# Altium schematic symbol library Memory Flash NAND.SchLib: 13 symbols
Pins are listed as number, name and electrical type; pins without a type are passive.

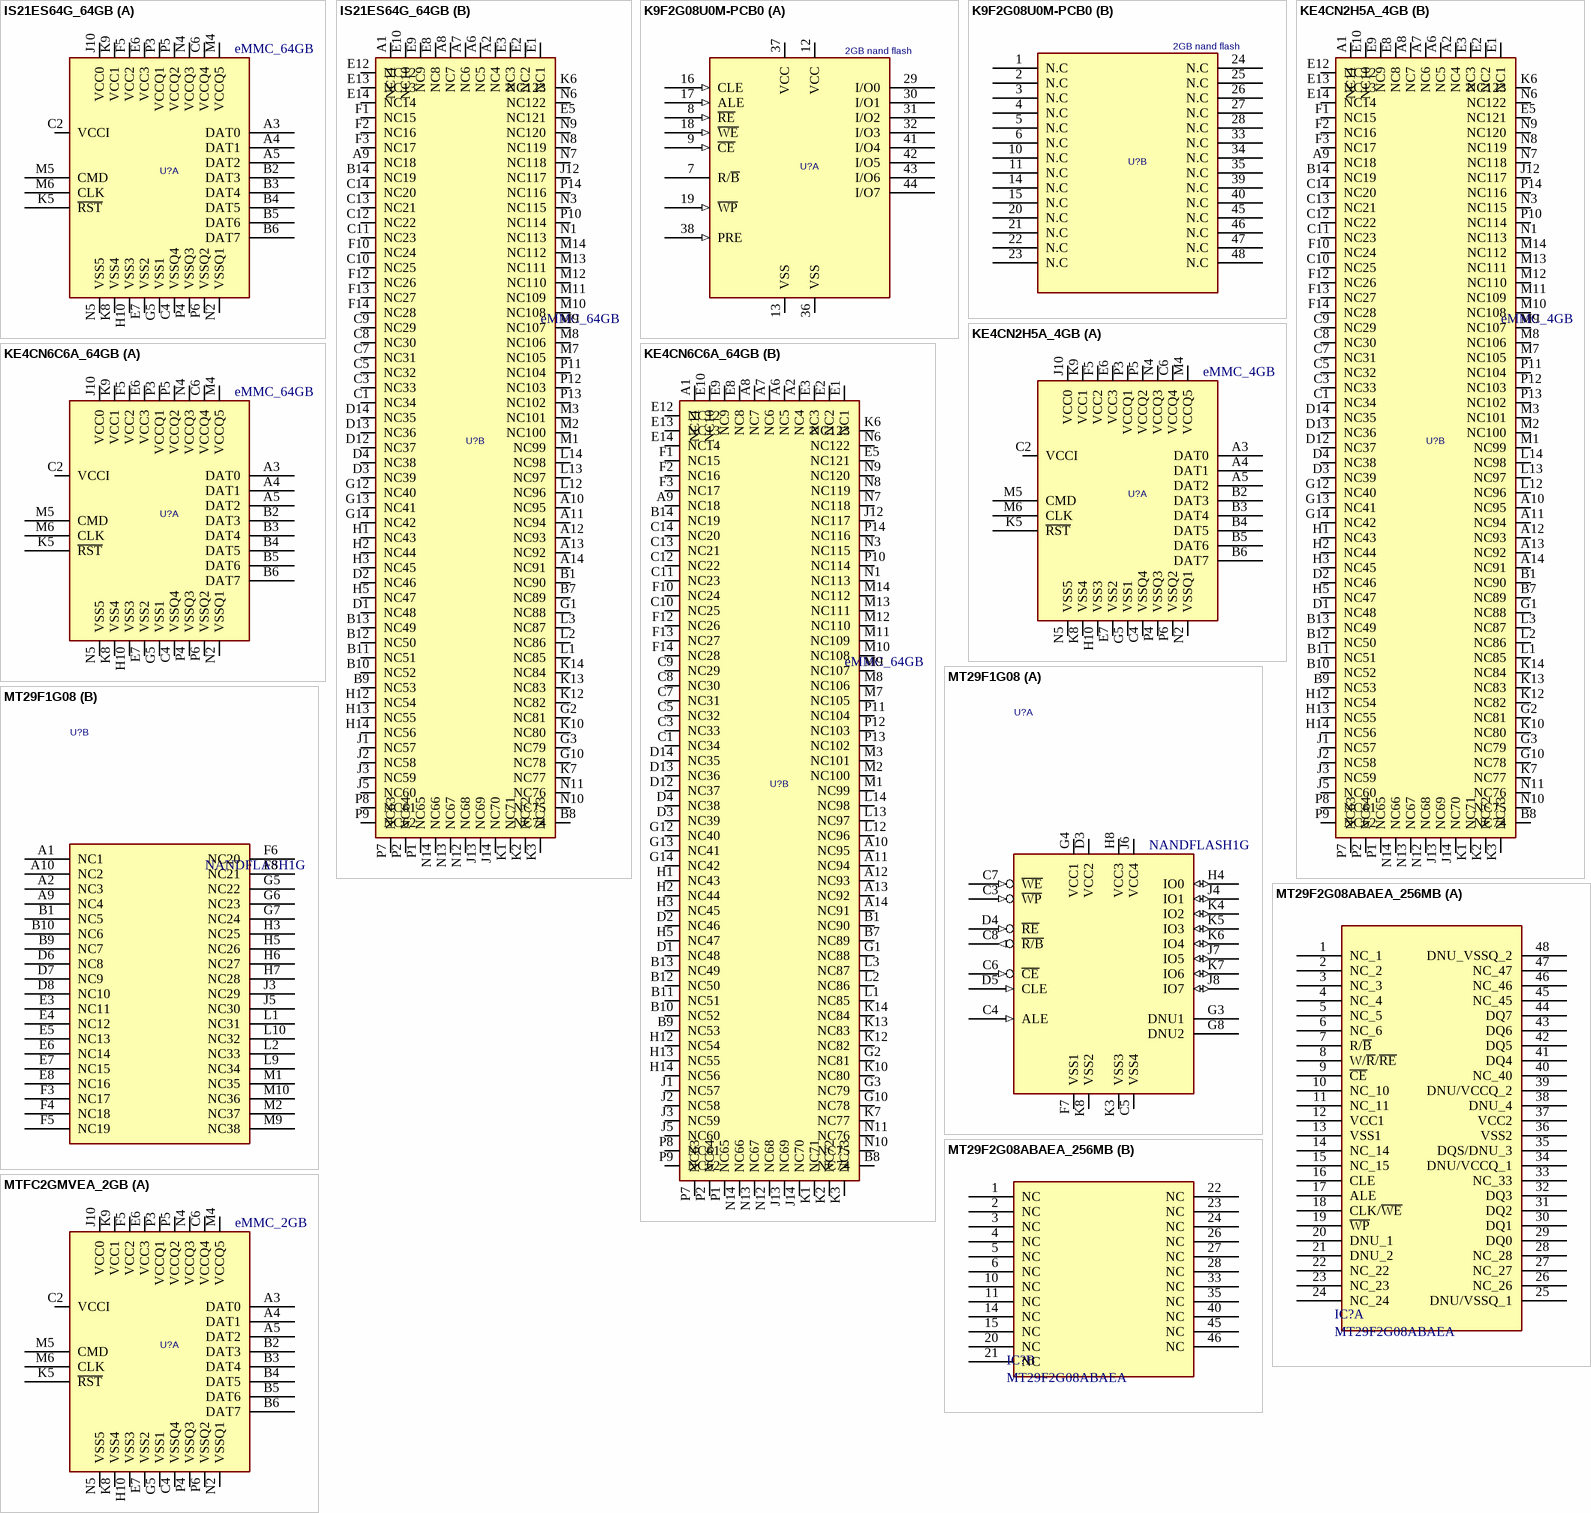
[diagram p0: symbols IS21ES64G_64GB to MTFC2GMVEA_2GB]

## IS21ES64G_64GB
designator U?, comment eMMC_64GB
eMMC NAND FLASH, 512Gb (64G x4), 153-VFBGA; MANF_P#: IS21ES64G, IS22ES64G (AUTOMOTIVE); MANF: ISSI; PARAM2: 3.3V; PARAM: 512Gb (128G x4); PRICE: 53$; VALUE: eMMC_64GB
footprint BGA50_153_11X13 (BGA 153ball, pitch:0.5mm, 11.5x13mm)
part A pins: A3 DAT0, A4 DAT1, A5 DAT2, B2 DAT3, B3 DAT4, B4 DAT5, B5 DAT6, B6 DAT7, C2 VCCI (power), C4 VSSQ4, C6 VCCQ4, E6 VCC3 (power), E7 VSS2 (power), F5 VCC2 (power), G5 VSS1 (power), H10 VSS3 (power), J10 VCC0, K5 ~{RST}, K8 VSS4 (power), K9 VCC1 (power), M4 VCCQ5 (power), M5 CMD, M6 CLK, N2 VSSQ1 (power), N4 VCCQ3 (power), N5 VSS5 (power), P3 VCCQ1 (power), P4 VSSQ3 (power), P5 VCCQ2 (power), P6 VSSQ2 (power)
part B pins: A1 NC11, A2 NC4, A6 NC5, A7 NC6, A8 NC7, A9 NC18, A10 NC95, A11 NC94, A12 NC93, A13 NC92, A14 NC91, B1 NC90, B7 NC89, B8 NC74, B9 NC53, B10 NC52, B11 NC51, B12 NC50, B13 NC49, B14 NC19, C1 NC34, C3 NC33, C5 NC32, C7 NC31, C8 NC30, C9 NC29, C10 NC25, C11 NC23, C12 NC22, C13 NC21, C14 NC20, D1 NC48, D2 NC46, D3 NC39, D4 NC38, D12 NC37, D13 NC36, D14 NC35, E1 NC1, E2 NC2, E3 NC3, E5 NC121, E8 NC8, E9 NC9, E10 NC10, E12 NC12, E13 NC13, E14 NC14, F1 NC15, F2 NC16, F3 NC17, F10 NC24, F12 NC26, F13 NC27, F14 NC28, G1 NC88, G2 NC81, G3 NC79, G10 NC78, G12 NC40, G13 NC41, G14 NC42, H1 NC43, H2 NC44, H3 NC45, H5 NC47, H12 NC54, H13 NC55, H14 NC56, J1 NC57, J2 NC58, J3 NC59, J5 NC60, J12 NC117, J13 NC69, J14 NC70, K1 NC71, K2 NC72, K3 NC73, K6 NC123, K7 NC77, K10 NC80, K12 NC82, K13 NC83, K14 NC84, L1 NC85, L2 NC86, L3 NC87, L12 NC96, L13 NC97, L14 NC98, M1 NC99, M2 NC100, M3 NC101, M7 NC105, M8 NC106, M9 NC107, M10 NC108, M11 NC109, M12 NC110, M13 NC111, M14 NC112, N1 NC113, N3 NC115, N6 NC122, N7 NC118, N8 NC119, N9 NC120, N10 NC75, N11 NC76, N12 NC68, N13 NC67, N14 NC66, P1 NC65, P2 NC64, P7 NC63, P8 NC61, P9 NC62, P10 NC114, P11 NC104, P12 NC103, P13 NC102, P14 NC116

## K9F2G08U0M-PCB0
designator U?, comment 2GB nand flash
Nand Flash, 2GB; PARAM2: 2.7~3.6V; MANF_P#: K9F2G08U0M-PCB0; MANF: SAMSUNG; VALUE: 2GB nand flash
footprint SOG50_48 (DGG TSSOP (TI), MO-153-ED (JEDEC), 48Lead, pitch: 0.5mm, 12.5x6.1x1.2mm)
part A pins: 7 R/~{B} (oc), 8 ~{RE} (in), 9 ~{CE} (in), 12 VCC (power), 13 VSS (power), 16 CLE (in), 17 ALE (in), 18 ~{WE} (in), 19 ~{WP} (in), 29 I/O0 (hiz), 30 I/O1 (hiz), 31 I/O2 (hiz), 32 I/O3 (hiz), 36 VSS (power), 37 VCC (power), 38 PRE (in), 41 I/O4 (hiz), 42 I/O5 (hiz), 43 I/O6 (hiz), 44 I/O7 (hiz)
part B pins: 1 N.C, 2 N.C, 3 N.C, 4 N.C, 5 N.C, 6 N.C, 10 N.C, 11 N.C, 14 N.C, 15 N.C, 20 N.C, 21 N.C, 22 N.C, 23 N.C, 24 N.C, 25 N.C, 26 N.C, 27 N.C, 28 N.C, 33 N.C, 34 N.C, 35 N.C, 39 N.C, 40 N.C, 45 N.C, 46 N.C, 47 N.C, 48 N.C
2 alternate drawings of the same symbol

## KE4CN2H5A_4GB
designator U?, comment eMMC_4GB
eMMC NAND FLASH, 4GB, 32Gb (4G x 8), 153-VFBGA; MANF_P#: KE4CN2H5A; MANF: Kingston; PARAM2: 2.7~3.6V; PARAM: 4GB, 32Gb (4G x 8); VALUE: eMMC_4GB
footprint BGA50_153_11X13 (BGA 153ball, pitch:0.5mm, 11.5x13mm)
part A pins: A3 DAT0, A4 DAT1, A5 DAT2, B2 DAT3, B3 DAT4, B4 DAT5, B5 DAT6, B6 DAT7, C2 VCCI (power), C4 VSSQ4, C6 VCCQ4, E6 VCC3 (power), E7 VSS2 (power), F5 VCC2 (power), G5 VSS1 (power), H10 VSS3 (power), J10 VCC0, K5 ~{RST}, K8 VSS4 (power), K9 VCC1 (power), M4 VCCQ5 (power), M5 CMD, M6 CLK, N2 VSSQ1 (power), N4 VCCQ3 (power), N5 VSS5 (power), P3 VCCQ1 (power), P4 VSSQ3 (power), P5 VCCQ2 (power), P6 VSSQ2 (power)
part B pins: A1 NC11, A2 NC4, A6 NC5, A7 NC6, A8 NC7, A9 NC18, A10 NC95, A11 NC94, A12 NC93, A13 NC92, A14 NC91, B1 NC90, B7 NC89, B8 NC74, B9 NC53, B10 NC52, B11 NC51, B12 NC50, B13 NC49, B14 NC19, C1 NC34, C3 NC33, C5 NC32, C7 NC31, C8 NC30, C9 NC29, C10 NC25, C11 NC23, C12 NC22, C13 NC21, C14 NC20, D1 NC48, D2 NC46, D3 NC39, D4 NC38, D12 NC37, D13 NC36, D14 NC35, E1 NC1, E2 NC2, E3 NC3, E5 NC121, E8 NC8, E9 NC9, E10 NC10, E12 NC12, E13 NC13, E14 NC14, F1 NC15, F2 NC16, F3 NC17, F10 NC24, F12 NC26, F13 NC27, F14 NC28, G1 NC88, G2 NC81, G3 NC79, G10 NC78, G12 NC40, G13 NC41, G14 NC42, H1 NC43, H2 NC44, H3 NC45, H5 NC47, H12 NC54, H13 NC55, H14 NC56, J1 NC57, J2 NC58, J3 NC59, J5 NC60, J12 NC117, J13 NC69, J14 NC70, K1 NC71, K2 NC72, K3 NC73, K6 NC123, K7 NC77, K10 NC80, K12 NC82, K13 NC83, K14 NC84, L1 NC85, L2 NC86, L3 NC87, L12 NC96, L13 NC97, L14 NC98, M1 NC99, M2 NC100, M3 NC101, M7 NC105, M8 NC106, M9 NC107, M10 NC108, M11 NC109, M12 NC110, M13 NC111, M14 NC112, N1 NC113, N3 NC115, N6 NC122, N7 NC118, N8 NC119, N9 NC120, N10 NC75, N11 NC76, N12 NC68, N13 NC67, N14 NC66, P1 NC65, P2 NC64, P7 NC63, P8 NC61, P9 NC62, P10 NC114, P11 NC104, P12 NC103, P13 NC102, P14 NC116

## KE4CN6C6A_64GB
designator U?, comment eMMC_64GB
eMMC NAND FLASH, 64GB, 512Gb (64G x 8), 153-VFBGA; MANF_P#: KE4CN2H5A; MANF: Kingston; PARAM2: 2.7~3.6V; PARAM: 64GB, 512Gb (64G x8); VALUE: eMMC_64GB
footprint BGA50_153_11X13 (BGA 153ball, pitch:0.5mm, 11.5x13mm)
part A pins: A3 DAT0, A4 DAT1, A5 DAT2, B2 DAT3, B3 DAT4, B4 DAT5, B5 DAT6, B6 DAT7, C2 VCCI (power), C4 VSSQ4, C6 VCCQ4, E6 VCC3 (power), E7 VSS2 (power), F5 VCC2 (power), G5 VSS1 (power), H10 VSS3 (power), J10 VCC0, K5 ~{RST}, K8 VSS4 (power), K9 VCC1 (power), M4 VCCQ5 (power), M5 CMD, M6 CLK, N2 VSSQ1 (power), N4 VCCQ3 (power), N5 VSS5 (power), P3 VCCQ1 (power), P4 VSSQ3 (power), P5 VCCQ2 (power), P6 VSSQ2 (power)
part B pins: A1 NC11, A2 NC4, A6 NC5, A7 NC6, A8 NC7, A9 NC18, A10 NC95, A11 NC94, A12 NC93, A13 NC92, A14 NC91, B1 NC90, B7 NC89, B8 NC74, B9 NC53, B10 NC52, B11 NC51, B12 NC50, B13 NC49, B14 NC19, C1 NC34, C3 NC33, C5 NC32, C7 NC31, C8 NC30, C9 NC29, C10 NC25, C11 NC23, C12 NC22, C13 NC21, C14 NC20, D1 NC48, D2 NC46, D3 NC39, D4 NC38, D12 NC37, D13 NC36, D14 NC35, E1 NC1, E2 NC2, E3 NC3, E5 NC121, E8 NC8, E9 NC9, E10 NC10, E12 NC12, E13 NC13, E14 NC14, F1 NC15, F2 NC16, F3 NC17, F10 NC24, F12 NC26, F13 NC27, F14 NC28, G1 NC88, G2 NC81, G3 NC79, G10 NC78, G12 NC40, G13 NC41, G14 NC42, H1 NC43, H2 NC44, H3 NC45, H5 NC47, H12 NC54, H13 NC55, H14 NC56, J1 NC57, J2 NC58, J3 NC59, J5 NC60, J12 NC117, J13 NC69, J14 NC70, K1 NC71, K2 NC72, K3 NC73, K6 NC123, K7 NC77, K10 NC80, K12 NC82, K13 NC83, K14 NC84, L1 NC85, L2 NC86, L3 NC87, L12 NC96, L13 NC97, L14 NC98, M1 NC99, M2 NC100, M3 NC101, M7 NC105, M8 NC106, M9 NC107, M10 NC108, M11 NC109, M12 NC110, M13 NC111, M14 NC112, N1 NC113, N3 NC115, N6 NC122, N7 NC118, N8 NC119, N9 NC120, N10 NC75, N11 NC76, N12 NC68, N13 NC67, N14 NC66, P1 NC65, P2 NC64, P7 NC63, P8 NC61, P9 NC62, P10 NC114, P11 NC104, P12 NC103, P13 NC102, P14 NC116

## MT29F1G08
designator U?, comment NANDFLASH1G
NAND FLASH, 1G, VFBGA 63P; MANF_P#: MT29F1G08ABBDAHC:D; MANF: MICRON; MANF_P#2: NUMONYX_NAND512R3A2DZA6E; VALUE: NANDFLASH1G
footprint BGA80_63_12X14 (Footprint not found)
part A pins: C3 ~{WP} (in), C4 ALE (in), C5 VSS4 (power), C6 ~{CE} (in), C7 ~{WE} (in), C8 ~{R/B} (out), D3 VCC2 (power), D4 ~{RE} (in), D5 CLE (in), F7 VSS1 (power), G3 DNU1, G4 VCC1 (power), G8 DNU2, H4 IO0 (io), H8 VCC3 (power), J4 IO1 (io), J6 VCC4 (power), J7 IO5 (io), J8 IO7 (io), K3 VSS3 (power), K4 IO2 (io), K5 IO3 (io), K6 IO4 (io), K7 IO6 (io), K8 VSS2 (power)
part B pins: A1 NC1, A2 NC3, A9 NC4, A10 NC2, B1 NC5, B9 NC7, B10 NC6, D6 NC8, D7 NC9, D8 NC10, E3 NC11, E4 NC12, E5 NC13, E6 NC14, E7 NC15, E8 NC16, F3 NC17, F4 NC18, F5 NC19, F6 NC20, F8 NC21, G5 NC22, G6 NC23, G7 NC24, H3 NC25, H5 NC26, H6 NC27, H7 NC28, J3 NC29, J5 NC30, L1 NC31, L2 NC33, L9 NC34, L10 NC32, M1 NC35, M2 NC37, M9 NC38, M10 NC36

## MT29F2G08ABAEA_256MB
designator IC?, comment MT29F2G08ABAEA
NAND FLASH, 2Gb (256M x 8), 48-TSSOP(I); Manufacturer: Micron Technology; MANF_P#: MT29F2G08ABAEAWP-IT:ETR; Address Bus Width: 29b; Operating Supply Voltage: 3.3V; Min Supply Voltage: 2.7V; Max Supply Voltage: 3.6V; Word Size: 8b; Nominal Supply Current: 35mA; Interface: Parallel; Memory Type: Non-Volatile,FLASH; Sync/Async: Asynchronous; Supplier 1: Mouser; Stock 1: 0; Mount: Surface Mount; Case/Package: TFSOP; Number of Pins: 48; Min Operating Temperature: -40°C; Max Operating Temperature: 85°C; Packaging: Tape and Reel; Package Quantity: 1; Density: 2Gb; Memory Size: 2Gb; VALUE: MT29F2G08ABAEA
footprint SOG50_48_W (TSOP I, 12x20mm, pitch: 0.5mm)
part A pins: 1 NC_1, 2 NC_2, 3 NC_3, 4 NC_4, 5 NC_5, 6 NC_6, 7 R/~{B}, 8 W/~{R}/~{RE}, 9 ~{CE}, 10 NC_10, 11 NC_11, 12 VCC1, 13 VSS1, 14 NC_14, 15 NC_15, 16 CLE, 17 ALE, 18 CLK/~{WE}, 19 ~{WP}, 20 DNU_1, 21 DNU_2, 22 NC_22, 23 NC_23, 24 NC_24, 25 DNU/VSSQ_1, 26 NC_26, 27 NC_27, 28 NC_28, 29 DQ0, 30 DQ1, 31 DQ2, 32 DQ3, 33 NC_33, 34 DNU/VCCQ_1, 35 DQS/DNU_3, 36 VSS2, 37 VCC2, 38 DNU_4, 39 DNU/VCCQ_2, 40 NC_40, 41 DQ4, 42 DQ5, 43 DQ6, 44 DQ7, 45 NC_45, 46 NC_46, 47 NC_47, 48 DNU_VSSQ_2
part B pins: 1 NC, 2 NC, 3 NC, 4 NC, 5 NC, 6 NC, 10 NC, 11 NC, 14 NC, 15 NC, 20 NC, 21 NC, 22 NC, 23 NC, 24 NC, 26 NC, 27 NC, 28 NC, 33 NC, 35 NC, 40 NC, 45 NC, 46 NC

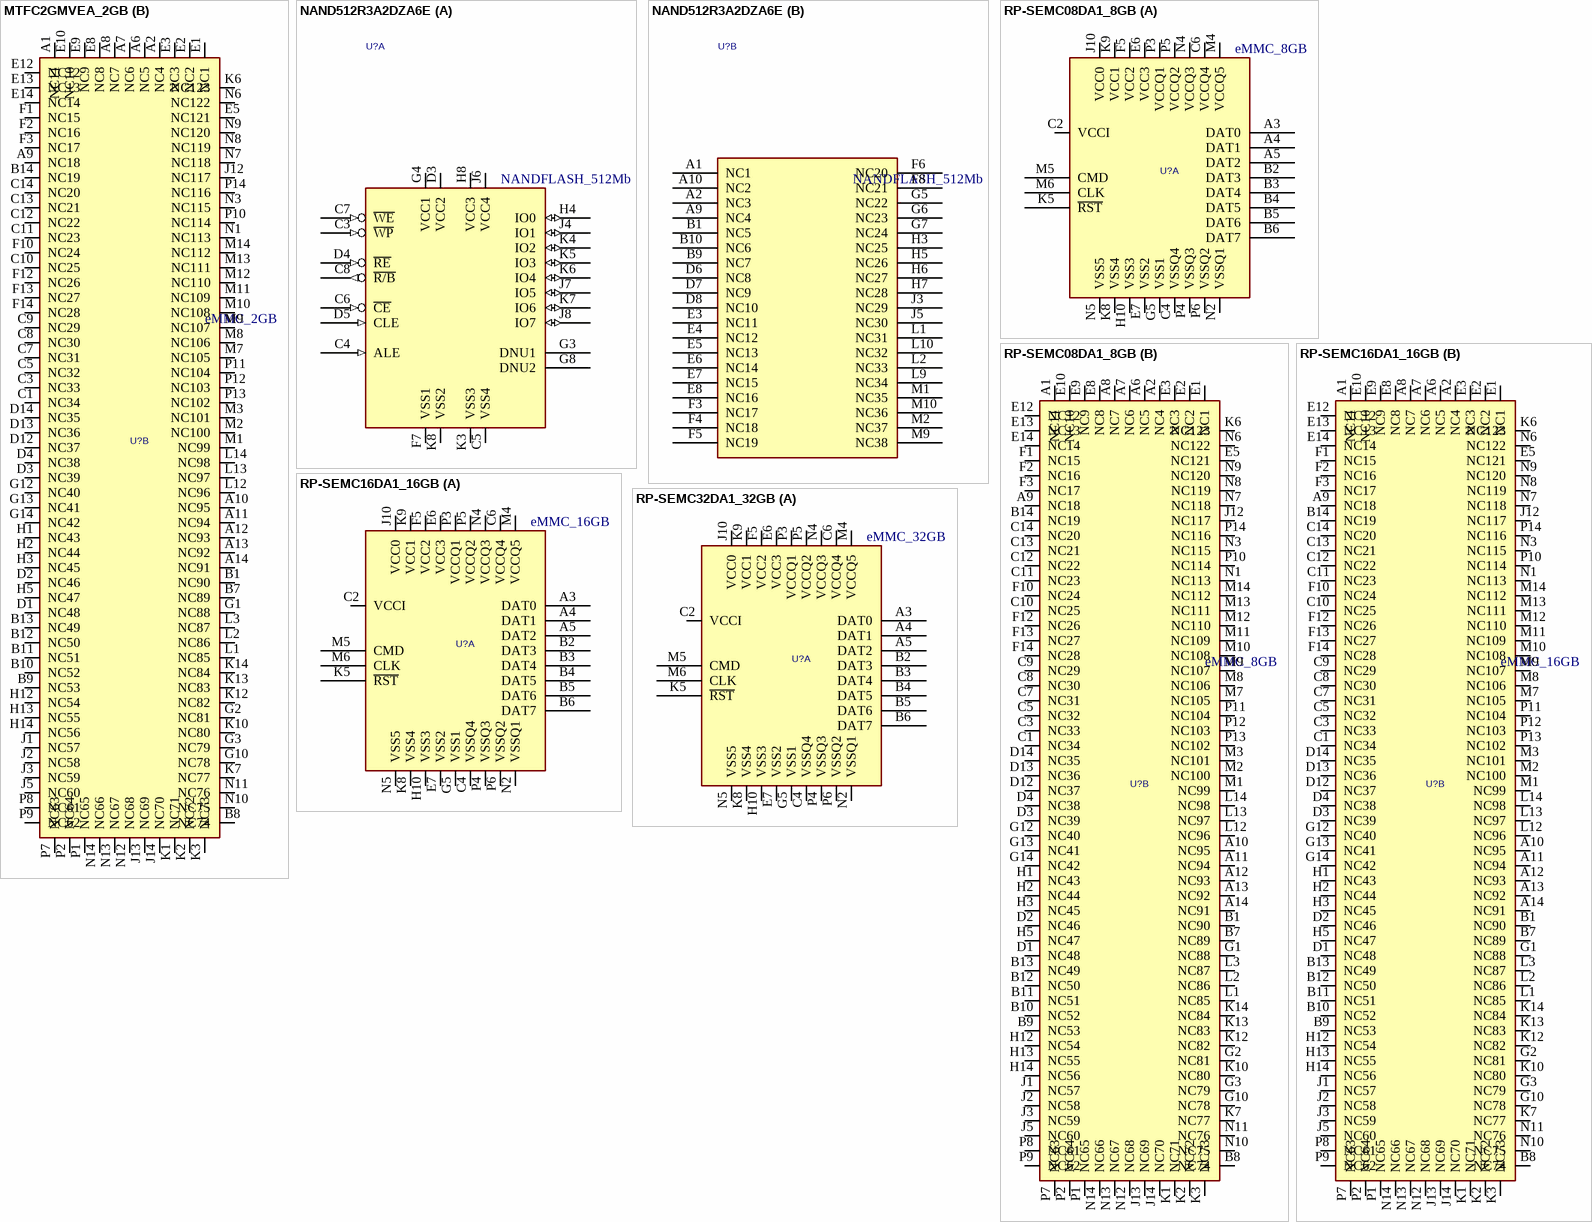
[diagram p1: symbols MTFC2GMVEA_2GB to RP-SEMC32DA1_32GB]

## MTFC2GMVEA_2GB
designator U?, comment eMMC_2GB
eMMC NAND FLASH, 2GB, 16Gb (2G x 8), 153-VFBGA; MANF_P#: MTFC2GMVEA-0M WT; MANF: Micron; PARAM2: 2.7~3.6V; VALUE: eMMC_2GB
footprint BGA50_153_11X13 (BGA 153ball, pitch:0.5mm, 11.5x13mm)
part A pins: A3 DAT0, A4 DAT1, A5 DAT2, B2 DAT3, B3 DAT4, B4 DAT5, B5 DAT6, B6 DAT7, C2 VCCI (power), C4 VSSQ4, C6 VCCQ4, E6 VCC3 (power), E7 VSS2 (power), F5 VCC2 (power), G5 VSS1 (power), H10 VSS3 (power), J10 VCC0, K5 ~{RST}, K8 VSS4 (power), K9 VCC1 (power), M4 VCCQ5 (power), M5 CMD, M6 CLK, N2 VSSQ1 (power), N4 VCCQ3 (power), N5 VSS5 (power), P3 VCCQ1 (power), P4 VSSQ3 (power), P5 VCCQ2 (power), P6 VSSQ2 (power)
part B pins: A1 NC11, A2 NC4, A6 NC5, A7 NC6, A8 NC7, A9 NC18, A10 NC95, A11 NC94, A12 NC93, A13 NC92, A14 NC91, B1 NC90, B7 NC89, B8 NC74, B9 NC53, B10 NC52, B11 NC51, B12 NC50, B13 NC49, B14 NC19, C1 NC34, C3 NC33, C5 NC32, C7 NC31, C8 NC30, C9 NC29, C10 NC25, C11 NC23, C12 NC22, C13 NC21, C14 NC20, D1 NC48, D2 NC46, D3 NC39, D4 NC38, D12 NC37, D13 NC36, D14 NC35, E1 NC1, E2 NC2, E3 NC3, E5 NC121, E8 NC8, E9 NC9, E10 NC10, E12 NC12, E13 NC13, E14 NC14, F1 NC15, F2 NC16, F3 NC17, F10 NC24, F12 NC26, F13 NC27, F14 NC28, G1 NC88, G2 NC81, G3 NC79, G10 NC78, G12 NC40, G13 NC41, G14 NC42, H1 NC43, H2 NC44, H3 NC45, H5 NC47, H12 NC54, H13 NC55, H14 NC56, J1 NC57, J2 NC58, J3 NC59, J5 NC60, J12 NC117, J13 NC69, J14 NC70, K1 NC71, K2 NC72, K3 NC73, K6 NC123, K7 NC77, K10 NC80, K12 NC82, K13 NC83, K14 NC84, L1 NC85, L2 NC86, L3 NC87, L12 NC96, L13 NC97, L14 NC98, M1 NC99, M2 NC100, M3 NC101, M7 NC105, M8 NC106, M9 NC107, M10 NC108, M11 NC109, M12 NC110, M13 NC111, M14 NC112, N1 NC113, N3 NC115, N6 NC122, N7 NC118, N8 NC119, N9 NC120, N10 NC75, N11 NC76, N12 NC68, N13 NC67, N14 NC66, P1 NC65, P2 NC64, P7 NC63, P8 NC61, P9 NC62, P10 NC114, P11 NC104, P12 NC103, P13 NC102, P14 NC116

## NAND512R3A2DZA6E
designator U?, comment NANDFLASH_512Mb
NAND FLASH, 512Mb, VFBGA 63P; MANF_P#: NAND512R3A2DZA6E; MANF: NUMONYX; PARAM: 512Mb, 50ns; VALUE: NANDFLASH_512Mb
footprint BGA80_63_12X14 (Footprint not found)
part A pins: C3 ~{WP} (in), C4 ALE (in), C5 VSS4 (power), C6 ~{CE} (in), C7 ~{WE} (in), C8 ~{R/B} (out), D3 VCC2 (power), D4 ~{RE} (in), D5 CLE (in), F7 VSS1 (power), G3 DNU1, G4 VCC1 (power), G8 DNU2, H4 IO0 (io), H8 VCC3 (power), J4 IO1 (io), J6 VCC4 (power), J7 IO5 (io), J8 IO7 (io), K3 VSS3 (power), K4 IO2 (io), K5 IO3 (io), K6 IO4 (io), K7 IO6 (io), K8 VSS2 (power)
part B pins: A1 NC1, A2 NC3, A9 NC4, A10 NC2, B1 NC5, B9 NC7, B10 NC6, D6 NC8, D7 NC9, D8 NC10, E3 NC11, E4 NC12, E5 NC13, E6 NC14, E7 NC15, E8 NC16, F3 NC17, F4 NC18, F5 NC19, F6 NC20, F8 NC21, G5 NC22, G6 NC23, G7 NC24, H3 NC25, H5 NC26, H6 NC27, H7 NC28, J3 NC29, J5 NC30, L1 NC31, L2 NC33, L9 NC34, L10 NC32, M1 NC35, M2 NC37, M9 NC38, M10 NC36

## RP-SEMC08DA1_8GB
designator U?, comment eMMC_8GB
eMMC NAND FLASH, 64Gb (8G x 8), 153-VFBGA; MANF_P#: RP-SEMC08DA1; MANF: Panasonic; PARAM2: 2.7~3.6V; PARAM: 64Gb (8G x 8), -40~85oC; PRICE: 18$; VALUE: eMMC_8GB
footprint BGA50_153_11X13 (BGA 153ball, pitch:0.5mm, 11.5x13mm)
part A pins: A3 DAT0, A4 DAT1, A5 DAT2, B2 DAT3, B3 DAT4, B4 DAT5, B5 DAT6, B6 DAT7, C2 VCCI (power), C4 VSSQ4, C6 VCCQ4, E6 VCC3 (power), E7 VSS2 (power), F5 VCC2 (power), G5 VSS1 (power), H10 VSS3 (power), J10 VCC0, K5 ~{RST}, K8 VSS4 (power), K9 VCC1 (power), M4 VCCQ5 (power), M5 CMD, M6 CLK, N2 VSSQ1 (power), N4 VCCQ3 (power), N5 VSS5 (power), P3 VCCQ1 (power), P4 VSSQ3 (power), P5 VCCQ2 (power), P6 VSSQ2 (power)
part B pins: A1 NC11, A2 NC4, A6 NC5, A7 NC6, A8 NC7, A9 NC18, A10 NC95, A11 NC94, A12 NC93, A13 NC92, A14 NC91, B1 NC90, B7 NC89, B8 NC74, B9 NC53, B10 NC52, B11 NC51, B12 NC50, B13 NC49, B14 NC19, C1 NC34, C3 NC33, C5 NC32, C7 NC31, C8 NC30, C9 NC29, C10 NC25, C11 NC23, C12 NC22, C13 NC21, C14 NC20, D1 NC48, D2 NC46, D3 NC39, D4 NC38, D12 NC37, D13 NC36, D14 NC35, E1 NC1, E2 NC2, E3 NC3, E5 NC121, E8 NC8, E9 NC9, E10 NC10, E12 NC12, E13 NC13, E14 NC14, F1 NC15, F2 NC16, F3 NC17, F10 NC24, F12 NC26, F13 NC27, F14 NC28, G1 NC88, G2 NC81, G3 NC79, G10 NC78, G12 NC40, G13 NC41, G14 NC42, H1 NC43, H2 NC44, H3 NC45, H5 NC47, H12 NC54, H13 NC55, H14 NC56, J1 NC57, J2 NC58, J3 NC59, J5 NC60, J12 NC117, J13 NC69, J14 NC70, K1 NC71, K2 NC72, K3 NC73, K6 NC123, K7 NC77, K10 NC80, K12 NC82, K13 NC83, K14 NC84, L1 NC85, L2 NC86, L3 NC87, L12 NC96, L13 NC97, L14 NC98, M1 NC99, M2 NC100, M3 NC101, M7 NC105, M8 NC106, M9 NC107, M10 NC108, M11 NC109, M12 NC110, M13 NC111, M14 NC112, N1 NC113, N3 NC115, N6 NC122, N7 NC118, N8 NC119, N9 NC120, N10 NC75, N11 NC76, N12 NC68, N13 NC67, N14 NC66, P1 NC65, P2 NC64, P7 NC63, P8 NC61, P9 NC62, P10 NC114, P11 NC104, P12 NC103, P13 NC102, P14 NC116

## RP-SEMC16DA1_16GB
designator U?, comment eMMC_16GB
eMMC NAND FLASH, 128Gb (16G x 8), 153-VFBGA; MANF_P#: RP-SEMC16DA1; MANF: Panasonic; PARAM2: 2.7~3.6V; PARAM: 128Gb (16G x 8); VALUE: eMMC_16GB
footprint BGA50_153_11X13 (BGA 153ball, pitch:0.5mm, 11.5x13mm)
part A pins: A3 DAT0, A4 DAT1, A5 DAT2, B2 DAT3, B3 DAT4, B4 DAT5, B5 DAT6, B6 DAT7, C2 VCCI (power), C4 VSSQ4, C6 VCCQ4, E6 VCC3 (power), E7 VSS2 (power), F5 VCC2 (power), G5 VSS1 (power), H10 VSS3 (power), J10 VCC0, K5 ~{RST}, K8 VSS4 (power), K9 VCC1 (power), M4 VCCQ5 (power), M5 CMD, M6 CLK, N2 VSSQ1 (power), N4 VCCQ3 (power), N5 VSS5 (power), P3 VCCQ1 (power), P4 VSSQ3 (power), P5 VCCQ2 (power), P6 VSSQ2 (power)
part B pins: A1 NC11, A2 NC4, A6 NC5, A7 NC6, A8 NC7, A9 NC18, A10 NC95, A11 NC94, A12 NC93, A13 NC92, A14 NC91, B1 NC90, B7 NC89, B8 NC74, B9 NC53, B10 NC52, B11 NC51, B12 NC50, B13 NC49, B14 NC19, C1 NC34, C3 NC33, C5 NC32, C7 NC31, C8 NC30, C9 NC29, C10 NC25, C11 NC23, C12 NC22, C13 NC21, C14 NC20, D1 NC48, D2 NC46, D3 NC39, D4 NC38, D12 NC37, D13 NC36, D14 NC35, E1 NC1, E2 NC2, E3 NC3, E5 NC121, E8 NC8, E9 NC9, E10 NC10, E12 NC12, E13 NC13, E14 NC14, F1 NC15, F2 NC16, F3 NC17, F10 NC24, F12 NC26, F13 NC27, F14 NC28, G1 NC88, G2 NC81, G3 NC79, G10 NC78, G12 NC40, G13 NC41, G14 NC42, H1 NC43, H2 NC44, H3 NC45, H5 NC47, H12 NC54, H13 NC55, H14 NC56, J1 NC57, J2 NC58, J3 NC59, J5 NC60, J12 NC117, J13 NC69, J14 NC70, K1 NC71, K2 NC72, K3 NC73, K6 NC123, K7 NC77, K10 NC80, K12 NC82, K13 NC83, K14 NC84, L1 NC85, L2 NC86, L3 NC87, L12 NC96, L13 NC97, L14 NC98, M1 NC99, M2 NC100, M3 NC101, M7 NC105, M8 NC106, M9 NC107, M10 NC108, M11 NC109, M12 NC110, M13 NC111, M14 NC112, N1 NC113, N3 NC115, N6 NC122, N7 NC118, N8 NC119, N9 NC120, N10 NC75, N11 NC76, N12 NC68, N13 NC67, N14 NC66, P1 NC65, P2 NC64, P7 NC63, P8 NC61, P9 NC62, P10 NC114, P11 NC104, P12 NC103, P13 NC102, P14 NC116

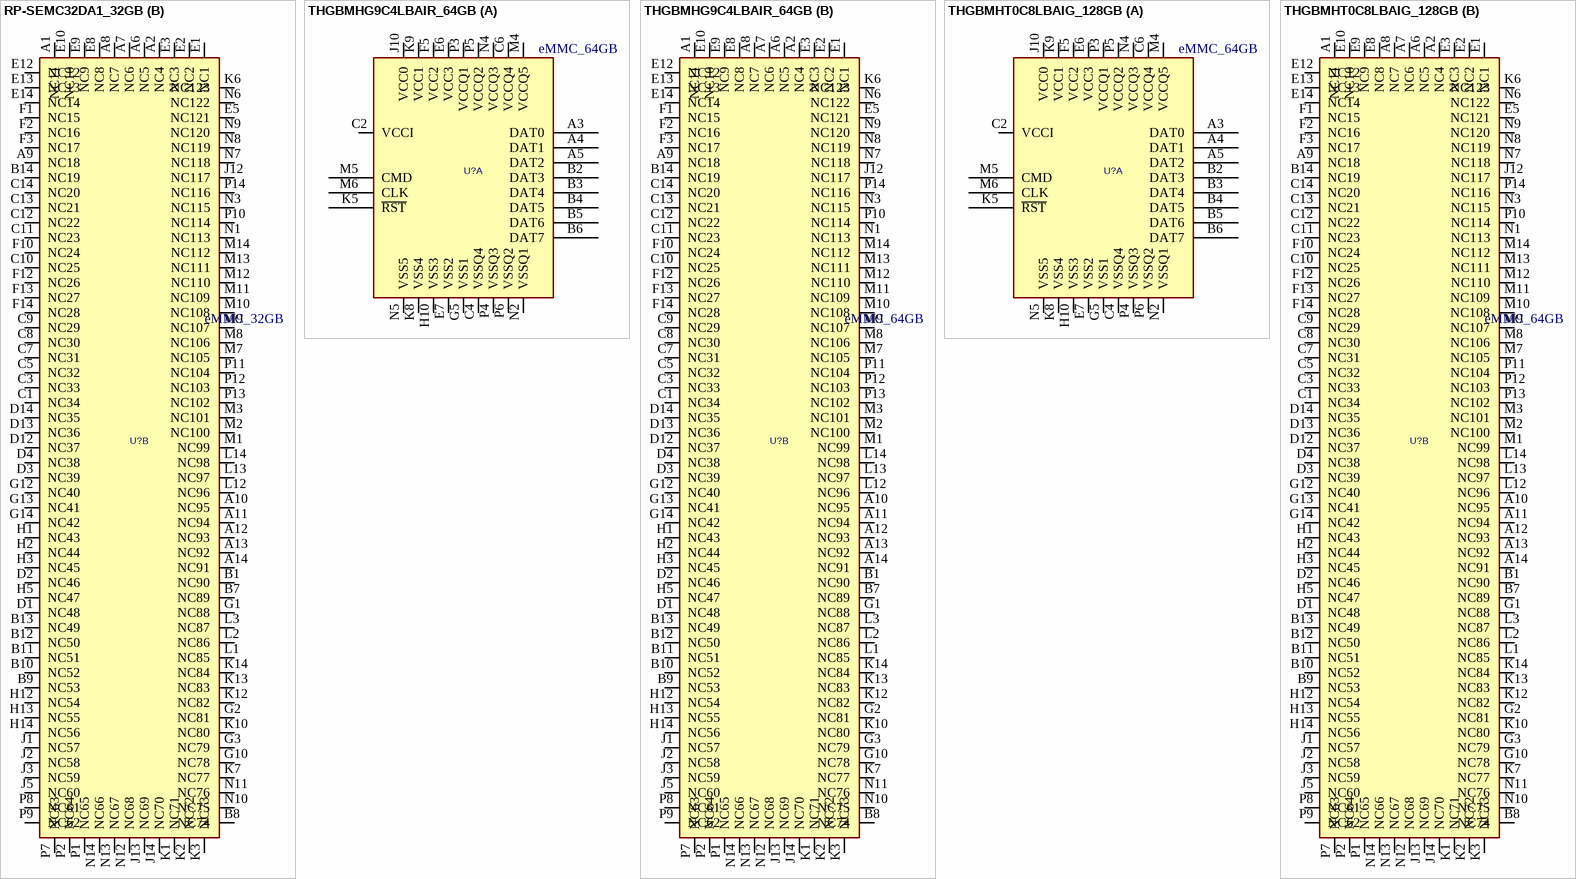
[diagram p2: symbols RP-SEMC32DA1_32GB to THGBMHT0C8LBAIG_128GB]

## RP-SEMC32DA1_32GB
designator U?, comment eMMC_32GB
eMMC NAND FLASH, 256Gb (32G x 8), 153-VFBGA; MANF_P#: RP-SEMC32DA1; MANF: Panasonic; PARAM2: 2.7~3.6V; PARAM: 256Gb (32G x 8); VALUE: eMMC_32GB
footprint BGA50_153_11X13 (BGA 153ball, pitch:0.5mm, 11.5x13mm)
part A pins: A3 DAT0, A4 DAT1, A5 DAT2, B2 DAT3, B3 DAT4, B4 DAT5, B5 DAT6, B6 DAT7, C2 VCCI (power), C4 VSSQ4, C6 VCCQ4, E6 VCC3 (power), E7 VSS2 (power), F5 VCC2 (power), G5 VSS1 (power), H10 VSS3 (power), J10 VCC0, K5 ~{RST}, K8 VSS4 (power), K9 VCC1 (power), M4 VCCQ5 (power), M5 CMD, M6 CLK, N2 VSSQ1 (power), N4 VCCQ3 (power), N5 VSS5 (power), P3 VCCQ1 (power), P4 VSSQ3 (power), P5 VCCQ2 (power), P6 VSSQ2 (power)
part B pins: A1 NC11, A2 NC4, A6 NC5, A7 NC6, A8 NC7, A9 NC18, A10 NC95, A11 NC94, A12 NC93, A13 NC92, A14 NC91, B1 NC90, B7 NC89, B8 NC74, B9 NC53, B10 NC52, B11 NC51, B12 NC50, B13 NC49, B14 NC19, C1 NC34, C3 NC33, C5 NC32, C7 NC31, C8 NC30, C9 NC29, C10 NC25, C11 NC23, C12 NC22, C13 NC21, C14 NC20, D1 NC48, D2 NC46, D3 NC39, D4 NC38, D12 NC37, D13 NC36, D14 NC35, E1 NC1, E2 NC2, E3 NC3, E5 NC121, E8 NC8, E9 NC9, E10 NC10, E12 NC12, E13 NC13, E14 NC14, F1 NC15, F2 NC16, F3 NC17, F10 NC24, F12 NC26, F13 NC27, F14 NC28, G1 NC88, G2 NC81, G3 NC79, G10 NC78, G12 NC40, G13 NC41, G14 NC42, H1 NC43, H2 NC44, H3 NC45, H5 NC47, H12 NC54, H13 NC55, H14 NC56, J1 NC57, J2 NC58, J3 NC59, J5 NC60, J12 NC117, J13 NC69, J14 NC70, K1 NC71, K2 NC72, K3 NC73, K6 NC123, K7 NC77, K10 NC80, K12 NC82, K13 NC83, K14 NC84, L1 NC85, L2 NC86, L3 NC87, L12 NC96, L13 NC97, L14 NC98, M1 NC99, M2 NC100, M3 NC101, M7 NC105, M8 NC106, M9 NC107, M10 NC108, M11 NC109, M12 NC110, M13 NC111, M14 NC112, N1 NC113, N3 NC115, N6 NC122, N7 NC118, N8 NC119, N9 NC120, N10 NC75, N11 NC76, N12 NC68, N13 NC67, N14 NC66, P1 NC65, P2 NC64, P7 NC63, P8 NC61, P9 NC62, P10 NC114, P11 NC104, P12 NC103, P13 NC102, P14 NC116

## THGBMHG9C4LBAIR_64GB
designator U?, comment eMMC_64GB
eMMC NAND FLASH, 512Gb (64G x 8), 153-VFBGA; MANF_P#: THGBMHG9C4LBAIR; MANF: Toshiba; PARAM2: 2.7~3.6V; PARAM: 512Gb (64G x 8), 52MHz; PRICE: 53$; VALUE: eMMC_64GB
footprint BGA50_153_11X13 (BGA 153ball, pitch:0.5mm, 11.5x13mm)
part A pins: A3 DAT0, A4 DAT1, A5 DAT2, B2 DAT3, B3 DAT4, B4 DAT5, B5 DAT6, B6 DAT7, C2 VCCI (power), C4 VSSQ4, C6 VCCQ4, E6 VCC3 (power), E7 VSS2 (power), F5 VCC2 (power), G5 VSS1 (power), H10 VSS3 (power), J10 VCC0, K5 ~{RST}, K8 VSS4 (power), K9 VCC1 (power), M4 VCCQ5 (power), M5 CMD, M6 CLK, N2 VSSQ1 (power), N4 VCCQ3 (power), N5 VSS5 (power), P3 VCCQ1 (power), P4 VSSQ3 (power), P5 VCCQ2 (power), P6 VSSQ2 (power)
part B pins: A1 NC11, A2 NC4, A6 NC5, A7 NC6, A8 NC7, A9 NC18, A10 NC95, A11 NC94, A12 NC93, A13 NC92, A14 NC91, B1 NC90, B7 NC89, B8 NC74, B9 NC53, B10 NC52, B11 NC51, B12 NC50, B13 NC49, B14 NC19, C1 NC34, C3 NC33, C5 NC32, C7 NC31, C8 NC30, C9 NC29, C10 NC25, C11 NC23, C12 NC22, C13 NC21, C14 NC20, D1 NC48, D2 NC46, D3 NC39, D4 NC38, D12 NC37, D13 NC36, D14 NC35, E1 NC1, E2 NC2, E3 NC3, E5 NC121, E8 NC8, E9 NC9, E10 NC10, E12 NC12, E13 NC13, E14 NC14, F1 NC15, F2 NC16, F3 NC17, F10 NC24, F12 NC26, F13 NC27, F14 NC28, G1 NC88, G2 NC81, G3 NC79, G10 NC78, G12 NC40, G13 NC41, G14 NC42, H1 NC43, H2 NC44, H3 NC45, H5 NC47, H12 NC54, H13 NC55, H14 NC56, J1 NC57, J2 NC58, J3 NC59, J5 NC60, J12 NC117, J13 NC69, J14 NC70, K1 NC71, K2 NC72, K3 NC73, K6 NC123, K7 NC77, K10 NC80, K12 NC82, K13 NC83, K14 NC84, L1 NC85, L2 NC86, L3 NC87, L12 NC96, L13 NC97, L14 NC98, M1 NC99, M2 NC100, M3 NC101, M7 NC105, M8 NC106, M9 NC107, M10 NC108, M11 NC109, M12 NC110, M13 NC111, M14 NC112, N1 NC113, N3 NC115, N6 NC122, N7 NC118, N8 NC119, N9 NC120, N10 NC75, N11 NC76, N12 NC68, N13 NC67, N14 NC66, P1 NC65, P2 NC64, P7 NC63, P8 NC61, P9 NC62, P10 NC114, P11 NC104, P12 NC103, P13 NC102, P14 NC116

## THGBMHT0C8LBAIG_128GB
designator U?, comment eMMC_64GB
eMMC NAND FLASH, 1024Gb (128G x 8), 153-VFBGA; MANF_P#: THGBMHG9C4LBAIR; MANF: Toshiba; PARAM2: 2.7~3.6V; PARAM: 1024Gb (128G x 8); PRICE: -; VALUE: eMMC_64GB
footprint BGA50_153_11X13 (BGA 153ball, pitch:0.5mm, 11.5x13mm)
part A pins: A3 DAT0, A4 DAT1, A5 DAT2, B2 DAT3, B3 DAT4, B4 DAT5, B5 DAT6, B6 DAT7, C2 VCCI (power), C4 VSSQ4, C6 VCCQ4, E6 VCC3 (power), E7 VSS2 (power), F5 VCC2 (power), G5 VSS1 (power), H10 VSS3 (power), J10 VCC0, K5 ~{RST}, K8 VSS4 (power), K9 VCC1 (power), M4 VCCQ5 (power), M5 CMD, M6 CLK, N2 VSSQ1 (power), N4 VCCQ3 (power), N5 VSS5 (power), P3 VCCQ1 (power), P4 VSSQ3 (power), P5 VCCQ2 (power), P6 VSSQ2 (power)
part B pins: A1 NC11, A2 NC4, A6 NC5, A7 NC6, A8 NC7, A9 NC18, A10 NC95, A11 NC94, A12 NC93, A13 NC92, A14 NC91, B1 NC90, B7 NC89, B8 NC74, B9 NC53, B10 NC52, B11 NC51, B12 NC50, B13 NC49, B14 NC19, C1 NC34, C3 NC33, C5 NC32, C7 NC31, C8 NC30, C9 NC29, C10 NC25, C11 NC23, C12 NC22, C13 NC21, C14 NC20, D1 NC48, D2 NC46, D3 NC39, D4 NC38, D12 NC37, D13 NC36, D14 NC35, E1 NC1, E2 NC2, E3 NC3, E5 NC121, E8 NC8, E9 NC9, E10 NC10, E12 NC12, E13 NC13, E14 NC14, F1 NC15, F2 NC16, F3 NC17, F10 NC24, F12 NC26, F13 NC27, F14 NC28, G1 NC88, G2 NC81, G3 NC79, G10 NC78, G12 NC40, G13 NC41, G14 NC42, H1 NC43, H2 NC44, H3 NC45, H5 NC47, H12 NC54, H13 NC55, H14 NC56, J1 NC57, J2 NC58, J3 NC59, J5 NC60, J12 NC117, J13 NC69, J14 NC70, K1 NC71, K2 NC72, K3 NC73, K6 NC123, K7 NC77, K10 NC80, K12 NC82, K13 NC83, K14 NC84, L1 NC85, L2 NC86, L3 NC87, L12 NC96, L13 NC97, L14 NC98, M1 NC99, M2 NC100, M3 NC101, M7 NC105, M8 NC106, M9 NC107, M10 NC108, M11 NC109, M12 NC110, M13 NC111, M14 NC112, N1 NC113, N3 NC115, N6 NC122, N7 NC118, N8 NC119, N9 NC120, N10 NC75, N11 NC76, N12 NC68, N13 NC67, N14 NC66, P1 NC65, P2 NC64, P7 NC63, P8 NC61, P9 NC62, P10 NC114, P11 NC104, P12 NC103, P13 NC102, P14 NC116